# Altium footprint library 6364372-1.PcbLib: 2 footprints
Each footprint in its own frame and in the unit in brackets; x right, y up, seen from the top. Pads: shape width x height; smd on the part's side, far side on the other; paste and mask are expansions set on the pad; w line width, h text height; cw(c..) or ccw(c..) is an arc to the next point about the centre after c.
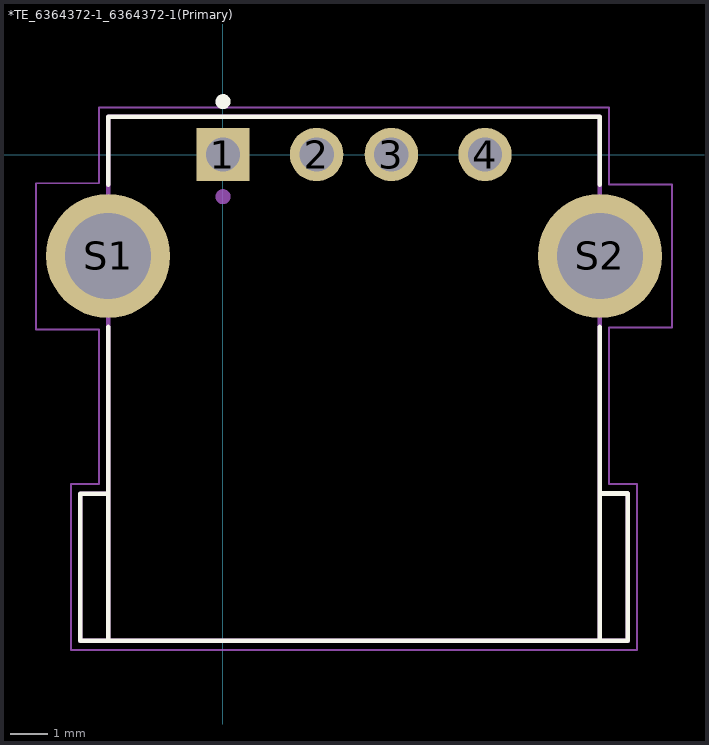
[diagram p0: the footprints below, top view; thin cyan lines are the x and y axes]

## *TE_6364372-1_6364372-1(Primary) [mm]
pads (6):
  rect 1.428x1.428 hole 0.92: 1(0,0)
  round 1.428 hole 0.92: 2(2.5,0) 3(4.5,0) 4(7,0)
  round 3.316 hole 2.3: S1(-3.07,-2.71) S2(10.07,-2.71)
Top Overlay:
  circle w0.2: c0,1.413 r0.1
  lines w0.127: -3.065,-4.61 -3.065,-9.06 ; -3.065,-0.81 -3.065,1.01 10.065,1.01 10.065,-0.81 ; 10.065,-4.61 10.065,-12.99 ; 10.09,-9.055 10.815,-9.055 10.815,-12.99 10.065,-12.99 ; -3.065,-12.99 -3.815,-12.99 -3.815,-9.06 -3.065,-9.06 ; -3.065,-12.99 10.065,-12.99 ; -3.065,-12.99 -3.065,-9.06
Mechanical 4:
  circle w0.2: c0,-1.127 r0.1
  circle w0.2: c0,-1.127 r0.1
  lines w0.127: -3.815,-12.99 -3.065,-12.99 ; -3.815,-12.99 -3.815,-9.06 ; -3.815,-12.99 -3.065,-12.99 ; -3.815,-12.99 -3.815,-9.06 ; -3.815,-9.06 -3.065,-9.06 ; -3.815,-9.06 -3.065,-9.06 ; -3.065,-12.99 10.065,-12.99 ; -3.065,-12.99 -3.065,-9.06 ; -3.065,-12.99 10.065,-12.99 ; -3.065,-12.99 -3.065,-9.06 ; -3.065,-9.06 -3.065,1.01 ; -3.065,-9.06 -3.065,1.01 ; -3.065,1.01 10.065,1.01 ; -3.065,1.01 10.065,1.01 ; 10.065,-12.99 10.815,-12.99 ; 10.065,-12.99 10.065,1.01 ; 10.065,-12.99 10.815,-12.99 ; 10.065,-12.99 10.065,1.01 ; 10.815,-12.99 10.815,-9.055 ; 10.815,-12.99 10.815,-9.055 ; 10.815,-9.055 10.09,-9.055 10.815,-9.055
Mechanical 16:
  lines w0.05: -5,-4.679 -5,-0.768 -3.315,-0.768 -3.315,1.26 10.315,1.26 10.315,-0.8 12,-0.8 12,-4.62 10.315,-4.62 10.315,-8.805 11.065,-8.805 11.065,-13.24 -4.065,-13.24 -4.065,-8.805 -3.315,-8.805 -3.315,-4.679 -5,-4.679

## PCBComponent_1 [mm]